# Altium footprint library PTN78020W.PcbLib: 1 footprints
Each footprint in its own frame and in the unit in brackets; x right, y up, seen from the top. Pads: shape width x height; smd on the part's side, far side on the other; paste and mask are expansions set on the pad; w line width, h text height; cw(c..) or ccw(c..) is an arc to the next point about the centre after c.
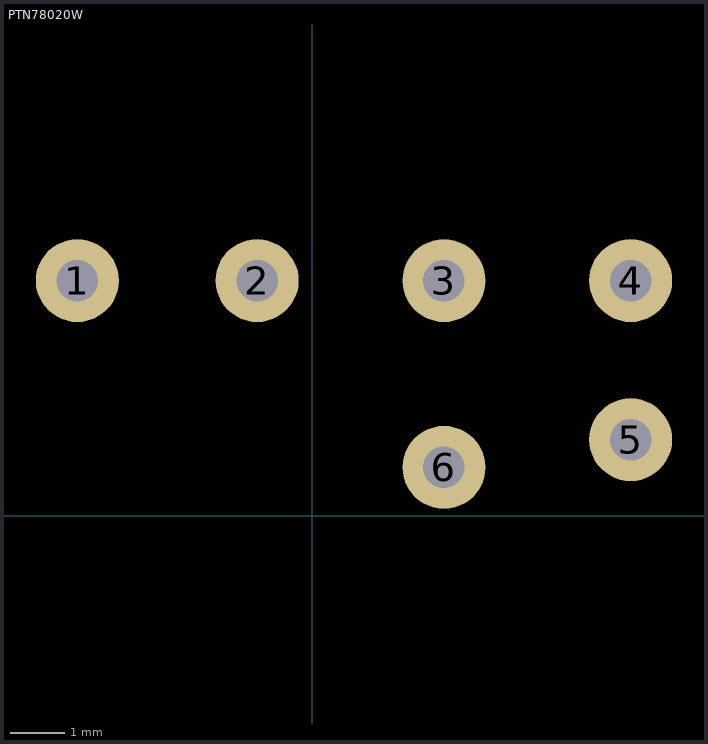
[diagram p0: the footprint, top view; thin cyan lines are the x and y axes]

## PTN78020W [mil]
pads (6):
  round 60 hole 30: 1(-170,170) 2(-40,170) 3(95,170) 4(230,170) 5(230,55) 6(95,35)